# EAGLE library part VMEBUS (library Atari)
VME board for ATARI MSTE & TT030
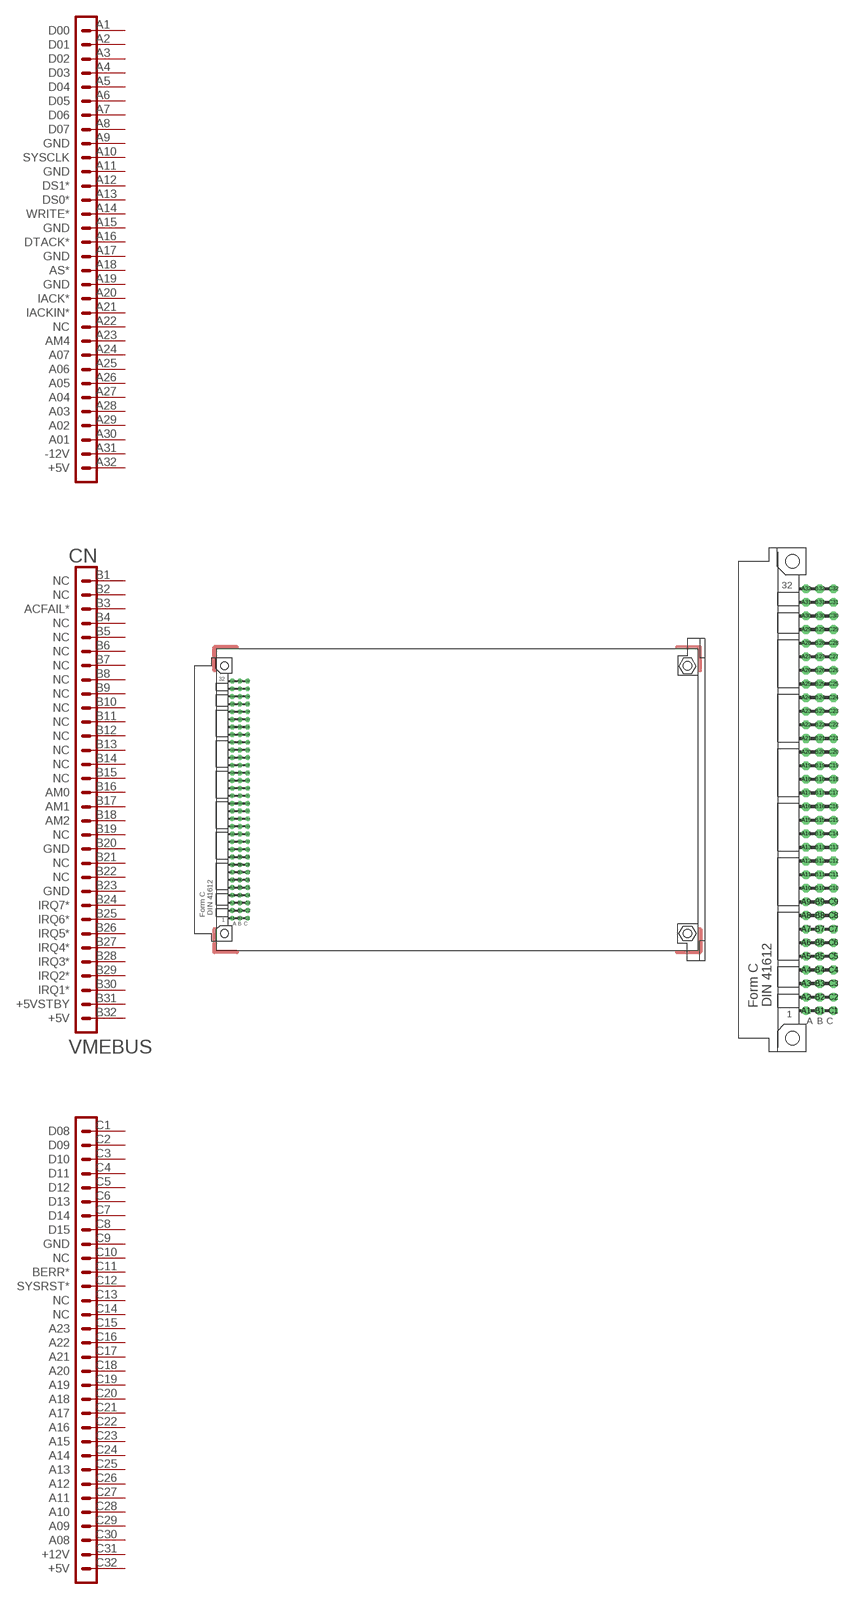
[diagram p2: symbol with the pads of VMESINGLEBOARD; footprints VMESINGLEBOARD, ATARIVMESLOT]

Designator prefix CN

## VMEBUSBOARD  [VMESINGLEBOARD]
A1  D00  pas
A2  D01  pas
A3  D02  pas
A4  D03  pas
A5  D04  pas
A6  D05  pas
A7  D06  pas
A8  D07  pas
A9  GND  pas
A10  SYSCLK  pas
A11  GND  pas
A12  DS1*  pas
A13  DS0*  pas
A14  WRITE*  pas
A15  GND  pas
A16  DTACK*  pas
A17  GND  pas
A18  AS*  pas
A19  GND  pas
A20  IACK*  pas
A21  IACKIN*  pas
A22  NC  pas
A23  AM4  pas
A24  A07  pas
A25  A06  pas
A26  A05  pas
A27  A04  pas
A28  A03  pas
A29  A02  pas
A30  A01  pas
A31  -12V  pas
A32  +5V  pas
B1  NC  pas
B2  NC  pas
B3  ACFAIL*  pas
B4  NC  pas
B5  NC  pas
B6  NC  pas
B7  NC  pas
B8  NC  pas
B9  NC  pas
B10  NC  pas
B11  NC  pas
B12  NC  pas
B13  NC  pas
B14  NC  pas
B15  NC  pas
B16  AM0  pas
B17  AM1  pas
B18  AM2  pas
B19  NC  pas
B20  GND  pas
B21  NC  pas
B22  NC  pas
B23  GND  pas
B24  IRQ7*  pas
B25  IRQ6*  pas
B26  IRQ5*  pas
B27  IRQ4*  pas
B28  IRQ3*  pas
B29  IRQ2*  pas
B30  IRQ1*  pas
B31  +5VSTBY  pas
B32  +5V  pas
C1  D08  pas
C2  D09  pas
C3  D10  pas
C4  D11  pas
C5  D12  pas
C6  D13  pas
C7  D14  pas
C8  D15  pas
C9  GND  pas
C10  NC  pas
C11  BERR*  pas
C12  SYSRST*  pas
C13  NC  pas
C14  NC  pas
C15  A23  pas
C16  A22  pas
C17  A21  pas
C18  A20  pas
C19  A19  pas
C20  A18  pas
C21  A17  pas
C22  A16  pas
C23  A15  pas
C24  A14  pas
C25  A13  pas
C26  A12  pas
C27  A11  pas
C28  A10  pas
C29  A09  pas
C30  A08  pas
C31  +12V  pas
C32  +5V  pas

## VMEBUSCONNECTOR  [ATARIVMESLOT]
Pads as for VMESINGLEBOARD

## Footprint VMESINGLEBOARD (pad centres in mm)
VME single board with 96pins ABC Row male connector
drill 0.914 pad 1.6: A1 -2.54,7.62
drill 0.914 pad 1.6 octagon: A2 -2.54,10.16; A3 -2.54,12.7; A4 -2.54,15.24; A5 -2.54,17.78; A6 -2.54,20.32; A7 -2.54,22.86; A8 -2.54,25.4; A9 -2.54,27.94; A10 -2.54,30.48; A11 -2.54,33.02; A12 -2.54,35.56; A13 -2.54,38.1; A14 -2.54,40.64; A15 -2.54,43.18; A16 -2.54,45.72; A17 -2.54,48.26; A18 -2.54,50.8; A19 -2.54,53.34; A20 -2.54,55.88; A21 -2.54,58.42; A22 -2.54,60.96; A23 -2.54,63.5; A24 -2.54,66.04; A25 -2.54,68.58; A26 -2.54,71.12; A27 -2.54,73.66; A28 -2.54,76.2; A29 -2.54,78.74; A30 -2.54,81.28; A31 -2.54,83.82; A32 -2.54,86.36; B1 0,7.62; B2 0,10.16; B3 0,12.7; B4 0,15.24; B5 0,17.78; B6 0,20.32; B7 0,22.86; B8 0,25.4; B9 0,27.94; B10 0,30.48; B11 0,33.02; B12 0,35.56; B13 0,38.1; B14 0,40.64; B15 0,43.18; B16 0,45.72; B17 0,48.26; B18 0,50.8; B19 0,53.34; B20 0,55.88; B21 0,58.42; B22 0,60.96; B23 0,63.5; B24 0,66.04; B25 0,68.58; B26 0,71.12; B27 0,73.66; B28 0,76.2; B29 0,78.74; B30 0,81.28; B31 0,83.82; B32 0,86.36; C1 2.54,7.62; C2 2.54,10.16; C3 2.54,12.7; C4 2.54,15.24; C5 2.54,17.78; C6 2.54,20.32; C7 2.54,22.86; C8 2.54,25.4; C9 2.54,27.94; C10 2.54,30.48; C11 2.54,33.02; C12 2.54,35.56; C13 2.54,38.1; C14 2.54,40.64; C15 2.54,43.18; C16 2.54,45.72; C17 2.54,48.26; C18 2.54,50.8; C19 2.54,53.34; C20 2.54,55.88; C21 2.54,58.42; C22 2.54,60.96; C23 2.54,63.5; C24 2.54,66.04; C25 2.54,68.58; C26 2.54,71.12; C27 2.54,73.66; C28 2.54,76.2; C29 2.54,78.74; C30 2.54,81.28; C31 2.54,83.82; C32 2.54,86.36

## Footprint ATARIVMESLOT (pad centres in mm)
VME connector on Atari
drill 0.914 pad 1.6: A1 12.7,-83.82
drill 0.914 pad 1.6 octagon: A2 12.7,-81.28; A3 12.7,-78.74; A4 12.7,-76.2; A5 12.7,-73.66; A6 12.7,-71.12; A7 12.7,-68.58; A8 12.7,-66.04; A9 12.7,-63.5; A10 12.7,-60.96; A11 12.7,-58.42; A12 12.7,-55.88; A13 12.7,-53.34; A14 12.7,-50.8; A15 12.7,-48.26; A16 12.7,-45.72; A17 12.7,-43.18; A18 12.7,-40.64; A19 12.7,-38.1; A20 12.7,-35.56; A21 12.7,-33.02; A22 12.7,-30.48; A23 12.7,-27.94; A24 12.7,-25.4; A25 12.7,-22.86; A26 12.7,-20.32; A27 12.7,-17.78; A28 12.7,-15.24; A29 12.7,-12.7; A30 12.7,-10.16; A31 12.7,-7.62; A32 12.7,-5.08; B1 15.24,-83.82; B2 15.24,-81.28; B3 15.24,-78.74; B4 15.24,-76.2; B5 15.24,-73.66; B6 15.24,-71.12; B7 15.24,-68.58; B8 15.24,-66.04; B9 15.24,-63.5; B10 15.24,-60.96; B11 15.24,-58.42; B12 15.24,-55.88; B13 15.24,-53.34; B14 15.24,-50.8; B15 15.24,-48.26; B16 15.24,-45.72; B17 15.24,-43.18; B18 15.24,-40.64; B19 15.24,-38.1; B20 15.24,-35.56; B21 15.24,-33.02; B22 15.24,-30.48; B23 15.24,-27.94; B24 15.24,-25.4; B25 15.24,-22.86; B26 15.24,-20.32; B27 15.24,-17.78; B28 15.24,-15.24; B29 15.24,-12.7; B30 15.24,-10.16; B31 15.24,-7.62; B32 15.24,-5.08; C1 17.78,-83.82; C2 17.78,-81.28; C3 17.78,-78.74; C4 17.78,-76.2; C5 17.78,-73.66; C6 17.78,-71.12; C7 17.78,-68.58; C8 17.78,-66.04; C9 17.78,-63.5; C10 17.78,-60.96; C11 17.78,-58.42; C12 17.78,-55.88; C13 17.78,-53.34; C14 17.78,-50.8; C15 17.78,-48.26; C16 17.78,-45.72; C17 17.78,-43.18; C18 17.78,-40.64; C19 17.78,-38.1; C20 17.78,-35.56; C21 17.78,-33.02; C22 17.78,-30.48; C23 17.78,-27.94; C24 17.78,-25.4; C25 17.78,-22.86; C26 17.78,-20.32; C27 17.78,-17.78; C28 17.78,-15.24; C29 17.78,-12.7; C30 17.78,-10.16; C31 17.78,-7.62; C32 17.78,-5.08